# EAGLE library part FB_KOMPAKT (library EIB_Freebus)
Steckverbinder für Controller <--> Anwendung Kompaktversion Vorteile: - Das Symbol im Schaltplan sieht so aus wie auf dem PCB - Vielleicht schneller zu überblicken, was an welchem Pin angeschlossen ist Nachteile: - Viele unnötige Leitungen im Schaltplan notwendig
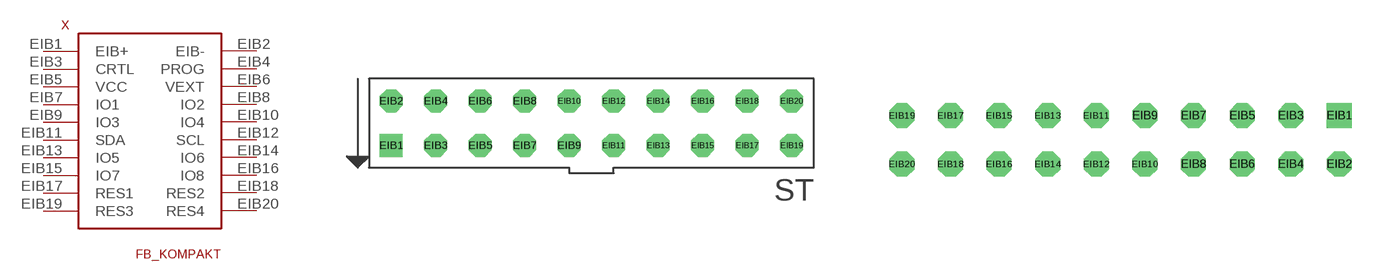
[diagram p1: symbol with the pads of EIB_10X2_STECKER; footprints EIB_10X2_STECKER, EIB_10X2_BUCHSE]

Designator prefix X

## FB_KOMPAKT-APP  [EIB_10X2_STECKER]
EIB1  EIB+
EIB2  EIB-
EIB3  CRTL
EIB4  PROG
EIB5  VCC
EIB6  VEXT
EIB7  IO1
EIB8  IO2
EIB9  IO3
EIB10  IO4
EIB11  SDA
EIB12  SCL
EIB13  IO5
EIB14  IO6
EIB15  IO7
EIB16  IO8
EIB17  RES1
EIB18  RES2
EIB19  RES3
EIB20  RES4

## FB_KOMPAKT-BCU  [EIB_10X2_BUCHSE]
Pads as for EIB_10X2_STECKER

## FB_KOMPAKT-SIDE  [EIB_10X2_BU_SIDE]
Pads as for EIB_10X2_STECKER

## FB_KOMPAKT  [ML20]
1  EIB+
2  EIB-
3  CRTL
4  PROG
5  VCC
6  VEXT
7  IO1
8  IO2
9  IO3
10  IO4
11  SDA
12  SCL
13  IO5
14  IO6
15  IO7
16  IO8
17  RES1
18  RES2
19  RES3
20  RES4

## Footprint EIB_10X2_STECKER (pad centres in mm)
10x2 Stiftleiste für Anwendungen Wird in der Regel auf TOP bestückt und stellt die Verbindung zum Controller her. Hinweis: Der Pfeil zeigt ins "Platineninnere"
drill 0.8 square: EIB1 -11.43,-1.27
drill 0.8 octagon: EIB2 -11.43,1.27; EIB3 -8.89,-1.27; EIB4 -8.89,1.27; EIB5 -6.35,-1.27; EIB6 -6.35,1.27; EIB7 -3.81,-1.27; EIB8 -3.81,1.27; EIB9 -1.27,-1.27; EIB10 -1.27,1.27; EIB11 1.27,-1.27; EIB12 1.27,1.27; EIB13 3.81,-1.27; EIB14 3.81,1.27; EIB15 6.35,-1.27; EIB16 6.35,1.27; EIB17 8.89,-1.27; EIB18 8.89,1.27; EIB19 11.43,-1.27; EIB20 11.43,1.27

## Footprint EIB_10X2_BUCHSE (pad centres in mm)
10x2 Buchsenleiste für Controller Wird in der Regel auf BOT bestückt und stellt die Verbindung zur Anwendung her. Hinweis: Der Pfeil zeigt ins "Platineninnere"
drill 0.8 square: EIB1 0,0
drill 0.8 octagon: EIB2 0,-2.54; EIB3 -2.54,0; EIB4 -2.54,-2.54; EIB5 -5.08,0; EIB6 -5.08,-2.54; EIB7 -7.62,0; EIB8 -7.62,-2.54; EIB9 -10.16,0; EIB10 -10.16,-2.54; EIB11 -12.7,0; EIB12 -12.7,-2.54; EIB13 -15.24,0; EIB14 -15.24,-2.54; EIB15 -17.78,0; EIB16 -17.78,-2.54; EIB17 -20.32,0; EIB18 -20.32,-2.54; EIB19 -22.86,0; EIB20 -22.86,-2.54

## Footprint EIB_10X2_BU_SIDE (pad centres in mm)
20x2 Buchsenleiste (seitlich) für Controller ACHTUNG: Überprüfung steht noch aus!! Die Buchsenleiste ist für seitliche (doppelseitige) Befestigung am Controller gedacht. Somit kann der Controller im 90°-Winkel auf die Anwendung gesteckt werden, oder falls eine gewinkelte Buchsenleiste verwendet wird im 180°-Winkel. Bestückung auf TOP: Controller-TOP-Seite zeigt zu Anwendungs-TOP-Seite (90° bei geraden Buchsenleisten) Bestückung auf BOT: Controller-TOP-Setie zeigt zu Anwendungs-BOT-Seite (180° für gewinkelte Buchsenleisten)
smd 3.81 x 1.93: EIB1 -2.54,-11.43; EIB3 -2.54,-8.89; EIB5 -2.54,-6.35; EIB7 -2.54,-3.81; EIB9 -2.54,-1.27; EIB11 -2.54,1.27; EIB13 -2.54,3.81; EIB15 -2.54,6.35; EIB17 -2.54,8.89; EIB19 -2.54,11.43
smd 3.81 x 1.93 bottom: EIB2 -2.54,-11.43; EIB4 -2.54,-8.89; EIB6 -2.54,-6.35; EIB8 -2.54,-3.81; EIB10 -2.54,-1.27; EIB12 -2.54,1.27; EIB14 -2.54,3.81; EIB16 -2.54,6.35; EIB18 -2.54,8.89; EIB20 -2.54,11.43

## Footprint ML20 (pad centres in mm)
drill 1 square: 1 -11.43,-1.27
drill 1 octagon: 2 -11.43,1.27; 3 -8.89,-1.27; 4 -8.89,1.27; 5 -6.35,-1.27; 6 -6.35,1.27; 7 -3.81,-1.27; 8 -3.81,1.27; 9 -1.27,-1.27; 10 -1.27,1.27; 11 1.27,-1.27; 12 1.27,1.27; 13 3.81,-1.27; 14 3.81,1.27; 15 6.35,-1.27; 16 6.35,1.27; 17 8.89,-1.27; 18 8.89,1.27; 19 11.43,-1.27; 20 11.43,1.27